# EAGLE library part M-PAD-2.1_FDC6305N (library v13)
Fairchild's FDC6305N Dual N-Channel 2.5V Specified PowerTrenchTM MOSFET General Description: These N-Channel low threshold 2.5V specified MOSFETs are produced using Fairchild Semiconductor's advanced PowerTrench process that has been especially tailored to minimize on-state resistance and yet maintain low gate charge for superior switching performance. Features: 2.7 A, 20 V. RDS(ON) = 0.08Ohm @ VGS = 4.5 V RDS(ON) = 0.12Ohm @ VGS = 2.5 V Low gate charge (3.5nC typical). Fast switching speed. High performance trench technology for extremely low RDS(ON). SuperSOTTM-6 package: small footprint (72% smaller than standard SO-8); low profile (1mm thick). Applications: Load switch DC/DC converter Motor driving Please send any comments to: messi@users.sourceforge.net
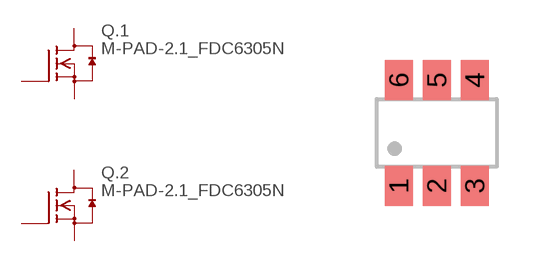
[diagram p12: symbol with the pads of M-PAD-2.1_SSOT-6; footprint M-PAD-2.1_SSOT-6]

Designator prefix Q; gates .1=M-PAD-2.1_IGFET-3-N-CH .2=M-PAD-2.1_IGFET-3-N-CH

## M-PAD-2.1_FDC6305N  [M-PAD-2.1_SSOT-6]
1  .1:G  pas
2  .2:S  pas
3  .2:G  pas
4  .2:D  pas
5  .1:S  pas
6  .1:D  pas

## Footprint M-PAD-2.1_SSOT-6 (pad centres in mm)
SuperSOT-6 (FS PKG Code 31, 33) E.g.: FDC6305N Dual N-Channel 2.5V Specified PowerTrench MOSFET
smd 0.7 x 1: 1 -0.95,-1.325; 2 0,-1.325; 3 0.95,-1.325; 4 0.95,1.325; 5 0,1.325; 6 -0.95,1.325